# EAGLE library part L6562D (library ST Microelectronics)
TRANSITION-MODE PFC CONTROLLER
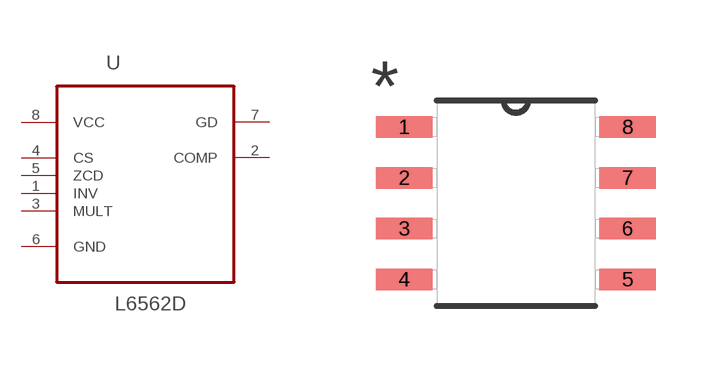
[diagram p49: symbol with the pads of SOIC127P600X175-8N; footprint SOIC127P600X175-8N]

Designator prefix U

## L6562D (MPN: L6562D; OC_FARNELL: 1077148; OC_NEWARK: 25M9046; PACKAGE: SOIC-8; SUPPLIER: STMICROELECTRONICS)  [SOIC127P600X175-8N]
1  INV  in
2  COMP  out
3  MULT  in
4  CS  in
5  ZCD  in
6  GND  pas
7  GD  out
8  VCC  pwr

## Footprint SOIC127P600X175-8N (pad centres in mm)
smd 1.422 x 0.533: 1 -2.794,1.905; 2 -2.794,0.635; 3 -2.794,-0.635; 4 -2.794,-1.905; 5 2.794,-1.905; 6 2.794,-0.635; 7 2.794,0.635; 8 2.794,1.905